# Altium schematic symbol library Wiring Harness Library.SchLib: 30 symbols
Pins are listed as number, name and electrical type; pins without a type are passive.

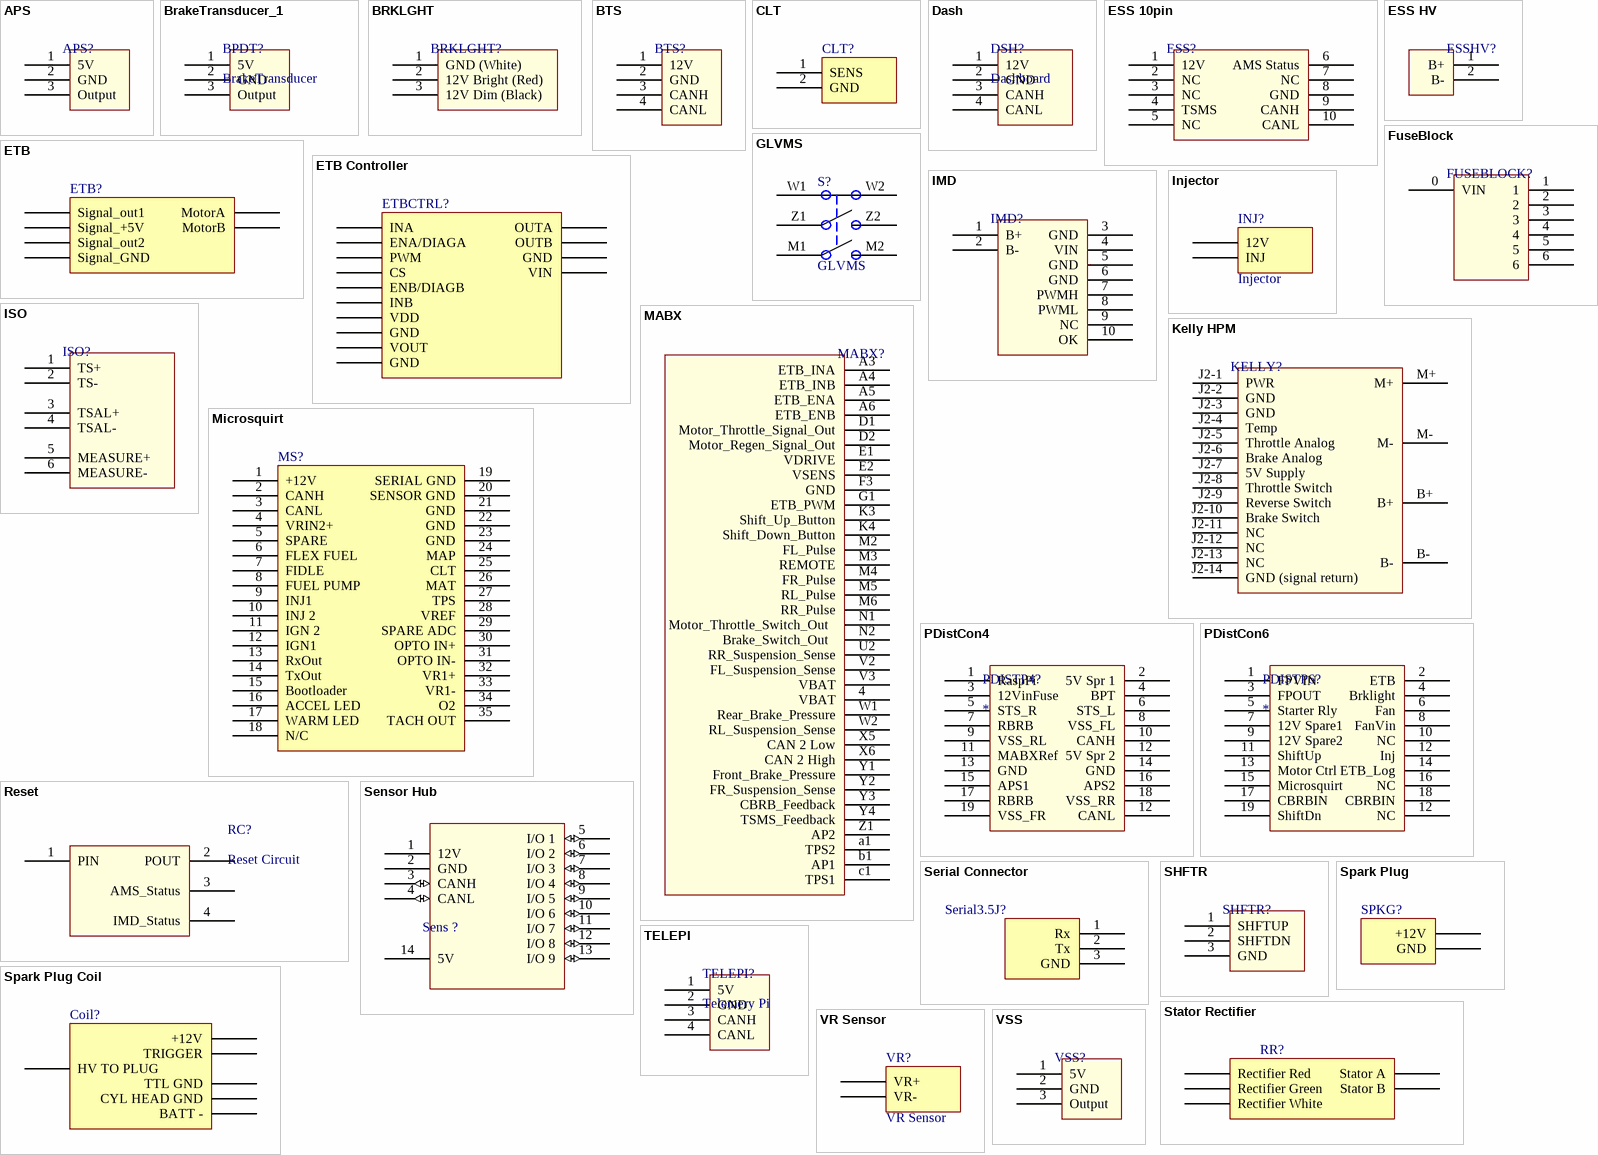
[diagram p0: symbols APS to VSS]

## APS
designator APS?  (value not drawn)
Accelerator Pedal Sensor
pins: 1 5V (power), 2 GND (power), 3 Output (power)

## BrakeTransducer_1
designator BPDT?, comment BrakeTransducer
Brake Pressure Transducer
pins: 1 5V (power), 2 GND (power), 3 Output (power)

## BRKLGHT
designator BRKLGHT?  (value not drawn)
Brake Light with Bright and Dim Modes
pins: 1 GND (White) (power), 2 12V Bright (Red) (power), 3 12V Dim (Black) (power)

## BTS
designator BTS?  (value not drawn)
Brake Temperature Sensor
pins: 1 12V (power), 2 GND (power), 3 CANH (power), 4 CANL (power)

## CLT
designator CLT?  (value not drawn)
Coolant Temperature Sensor
pins: 1 SENS, 2 GND

## Dash
designator DSH?, comment Dashboard
Dashboard Connector
pins: 1 12V (power), 2 GND (power), 3 CANH (power), 4 CANL (power)

## ESS 10pin
designator ESS?  (value not drawn)
ESS 10 Pin Main Connector
pins: 1 12V (power), 2 NC (power), 3 NC (power), 4 TSMS (power), 5 NC (power), 6 AMS Status (power), 7 NC (power), 8 GND (power), 9 CANH (power), 10 CANL (power)

## ESS HV
designator ESSHV?, comment ESS High Voltage  (value not drawn)
pins: 1 B+ (power), 2 B- (power)

## ETB
designator ETB?  (value not drawn)
Electronic Throttle Body
pins: 1 Signal_out1, 2 Signal_+5V, 3 Signal_out2, 4 Signal_GND, 5 MotorA, 6 MotorB

## ETB Controller
designator ETBCTRL?  (value not drawn)
ETB Controller Board
pins: 1 OUTA, 2 OUTB, 3 GND, 4 VIN, 5 INA, 6 ENA/DIAGA, 7 PWM, 8 CS, 9 ENB/DIAGB, 10 INB, 11 VDD, 12 GND, 13 VOUT, 14 GND

## FuseBlock
designator FUSEBLOCK?  (value not drawn)
Iztor 6 Way Light Fuse Box Block; Link: https://www.amazon.ca/Terminal-Single-Package-Accessories-Motorhomes/dp/B074K1TJNL/ref=sr_1_9?s=electronics&ie=UTF8&qid=1544502475&sr=1-9&keywords=6+way+fuse+box
pins: 0 VIN (power), 1 (power), 2 (power), 3 (power), 4 (power), 5 (power), 6 (power)

## GLVMS
designator S?
pins: M1 5, M2 3, W1 3, W2 3, Z1, Z2 3

## IMD
designator IMD?  (value not drawn)
Insulation Monitoring Device
pins: 1 B+ (power), 2 B- (power), 3 GND (power), 4 VIN (power), 5 GND (power), 6 GND (power), 7 PWMH (power), 8 PWML (power), 9 NC (power), 10 OK (power)

## Injector
designator INJ?
pins: 1 INJ, 2 12V

## ISO
designator ISO?, comment Isolation Board  (value not drawn)
pins: 1 TS+ (power), 2 TS- (power), 3 TSAL+ (power), 4 TSAL- (power), 5 MEASURE+ (power), 6 MEASURE- (power)

## Kelly HPM
designator KELLY?, comment Kelly MC  (value not drawn)
Kelly KPM 12601 Functional Pinout
pins: B+ (power), B- (power), J2-1 PWR (power), J2-2 GND (power), J2-3 GND (power), J2-4 Temp (power), J2-5 Throttle Analog (power), J2-6 Brake Analog (power), J2-7 5V Supply (power), J2-8 Throttle Switch (power), J2-9 Reverse Switch (power), J2-10 Brake Switch (power), J2-11 NC (power), J2-12 NC (power), J2-13 NC (power), J2-14 GND (signal return) (power), M+ (power), M- (power)

## MABX
designator MABX?  (value not drawn)
MicroAutoBox II in 2019 Layout V1
pins: 4 VBAT (power), a1 TPS2 (power), A3 ETB_INA (power), A4 ETB_INB (power), A5 ETB_ENA (power), A6 ETB_ENB (power), b1 AP1 (power), c1 TPS1 (power), D1 Motor_Throttle_Signal_Out (power), D2 Motor_Regen_Signal_Out (power), E1 VDRIVE (power), E2 VSENS (power), F3 GND (power), G1 ETB_PWM (power), K3 Shift_Up_Button (power), K4 Shift_Down_Button (power), M2 FL_Pulse (power), M3 REMOTE (power), M4 FR_Pulse (power), M5 RL_Pulse (power), M6 RR_Pulse (power), N1 Motor_Throttle_Switch_Out   (power), N2 Brake_Switch_Out   (power), U2 RR_Suspension_Sense (power), V2 FL_Suspension_Sense (power), V3 VBAT (power), W1 Rear_Brake_Pressure (power), W2 RL_Suspension_Sense (power), X5 CAN 2 Low (power), X6 CAN 2 High (power), Y1 Front_Brake_Pressure (power), Y2 FR_Suspension_Sense (power), Y3 CBRB_Feedback (power), Y4 TSMS_Feedback (power), Z1 AP2 (power)

## Microsquirt
designator MS?  (value not drawn)
Microsquirt EFI Controller
pins: 1 +12V, 2 CANH, 3 CANL, 4 VRIN2+, 5 SPARE, 6 FLEX FUEL, 7 FIDLE, 8 FUEL PUMP, 9 INJ1, 10 INJ 2, 11 IGN 2, 12 IGN1, 13 RxOut, 14 TxOut, 15 Bootloader, 16 ACCEL LED, 17 WARM LED, 18 N/C, 19 SERIAL GND, 20 SENSOR GND, 21 GND, 22 GND, 23 GND, 24 MAP, 25 CLT, 26 MAT, 27 TPS, 28 VREF, 29 SPARE ADC, 30 OPTO IN+, 31 OPTO IN-, 32 VR1+, 33 VR1-, 34 O2, 35 TACH OUT

## PDistCon4
designator PDISTP4?
pins: 1 RaspPi (power), 2 5V Spr 1 (power), 3 12VinFuse (power), 4 BPT (power), 5 STS_R (power), 6 STS_L (power), 7 RBRB (power), 8 VSS_FL (power), 9 VSS_RL (power), 10 CANH (power), 11 MABXRef (power), 12 5V Spr 2 (power), 12 CANL (power), 13 GND (power), 14 GND (power), 15 APS1 (power), 16 APS2 (power), 17 RBRB (power), 18 VSS_RR (power), 19 VSS_FR (power)

## PDistCon6
designator PDISTP6?
pins: 1 FPVIN (power), 2 ETB (power), 3 FPOUT (power), 4 Brklight (power), 5 Starter Rly (power), 6 Fan (power), 7 12V Spare1 (power), 8 FanVin (power), 9 12V Spare2 (power), 10 NC (power), 11 ShiftUp (power), 12 Inj (power), 12 NC (power), 13 Motor Ctrl (power), 14 ETB_Log (power), 15 Microsquirt (power), 16 NC (power), 17 CBRBIN (power), 18 CBRBIN (power), 19 ShiftDn (power)

## Reset
designator RC?, comment Reset Circuit
Reset Circuit for 2019 Rules
pins: 1 PIN (power), 2 POUT (power), 3 AMS_Status (power), 4 IMD_Status (power)

## Sensor Hub
designator Sens ?, comment CanSensHub  (value not drawn)
Canduino Sensor Hub
pins: 1 12V (power), 2 GND (power), 3 CANH (io), 4 CANL (io), 5 I/O 1 (io), 6 I/O 2 (io), 7 I/O 3 (io), 8 I/O 4 (io), 9 I/O 5 (io), 10 I/O 6 (io), 11 I/O 7 (io), 12 I/O 8 (io), 13 I/O 9 (io), 14 5V (power)

## Serial Connector
designator Serial3.5J?, comment Serial Jack  (value not drawn)
Serial Connector on a 3.5mm plug
pins: 1 Rx, 2 Tx, 3 GND

## SHFTR
designator SHFTR?, comment Shifter  (value not drawn)
Shifter Connector
pins: 1 SHFTUP (power), 2 SHFTDN (power), 3 GND (power)

## Spark Plug
designator SPKG?  (value not drawn)
Spark Plug with HV Lead Connector
pins: 1 +12V, 2 GND

## Spark Plug Coil
designator Coil?  (value not drawn)
pins: 1 +12V, 2 TTL GND, 3 HV TO PLUG, 4 BATT -, 5 TRIGGER, 6 CYL HEAD GND

## Stator Rectifier
designator RR?, comment Regulator Rectifier  (value not drawn)
pins: 7 Stator A, 8 Stator B, 9 Rectifier Red, 10 Rectifier Green, 11 Rectifier White

## TELEPI
designator TELEPI?, comment Telemery Pi
Raspberry Pi used for telemetry
pins: 1 5V (power), 2 GND (power), 3 CANH (power), 4 CANL (power)

## VR Sensor
designator VR?
Variable Reluctance Sensor
pins: 1 VR+, 2 VR-

## VSS
designator VSS?  (value not drawn)
Vehicle Speed Sensor
pins: 1 5V (power), 2 GND (power), 3 Output (power)